# Altium integrated library RS_ICs.IntLib: 6 symbols
Pins are listed as number, name and electrical type; pins without a type are passive.

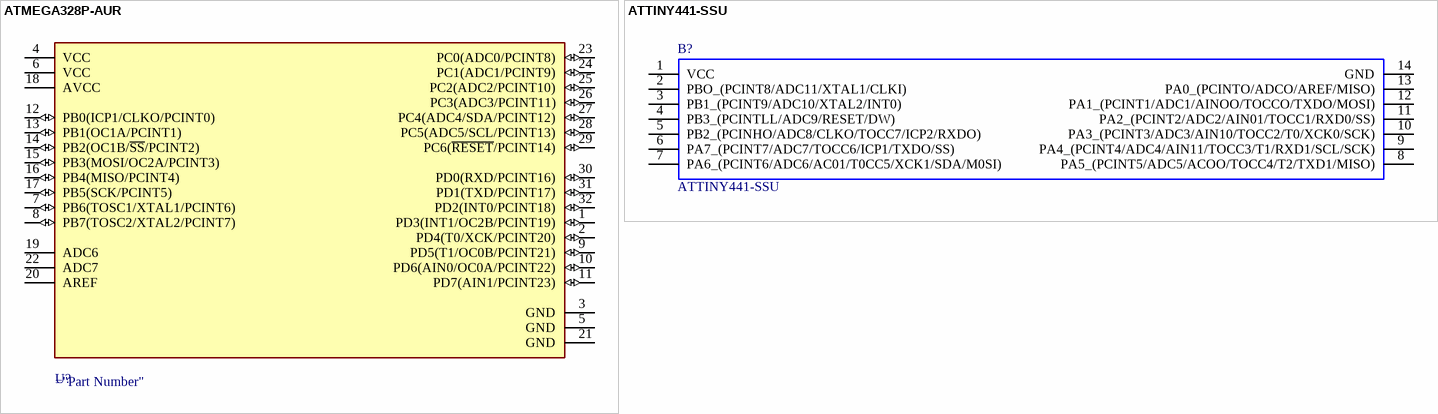
[diagram p0: symbols ATMEGA328P-AUR to ATTINY441-SSU]

## ATMEGA328P-AUR
designator U?  (value not drawn)
footprint Microchip_32A_0
pins: 1 PD3(INT1/OC2B/PCINT19) (io), 2 PD4(T0/XCK/PCINT20) (io), 3 GND (power), 4 VCC (power), 5 GND (power), 6 VCC (power), 7 PB6(TOSC1/XTAL1/PCINT6) (io), 8 PB7(TOSC2/XTAL2/PCINT7) (io), 9 PD5(T1/OC0B/PCINT21) (io), 10 PD6(AIN0/OC0A/PCINT22) (io), 11 PD7(AIN1/PCINT23) (io), 12 PB0(ICP1/CLKO/PCINT0) (io), 13 PB1(OC1A/PCINT1) (io), 14 PB2(OC1B/~{SS}/PCINT2) (io), 15 PB3(MOSI/OC2A/PCINT3) (io), 16 PB4(MISO/PCINT4) (io), 17 PB5(SCK/PCINT5) (io), 18 AVCC (power), 19 ADC6, 20 AREF, 21 GND (power), 22 ADC7, 23 PC0(ADC0/PCINT8) (io), 24 PC1(ADC1/PCINT9) (io), 25 PC2(ADC2/PCINT10) (io), 26 PC3(ADC3/PCINT11) (io), 27 PC4(ADC4/SDA/PCINT12) (io), 28 PC5(ADC5/SCL/PCINT13) (io), 29 PC6(~{RESET}/PCINT14) (io), 30 PD0(RXD/PCINT16) (io), 31 PD1(TXD/PCINT17) (io), 32 PD2(INT0/PCINT18) (io)

## ATTINY441-SSU
designator B?
8-bit Microcontrollers - MCU 16MHz 0.150" 14 SOIC; Manufacturer_Name: Microchip; Geometry.Height: 1.75mm; Manufacturer_Part_Number: ATTINY441-SSU; RS Part Number: 1331634; RS Price/Stock: http://uk.rs-online.com/web/p/products/1331634; Arrow Part Number: ATTINY441-SSU; Arrow Price/Stock: https://www.arrow.com/en/products/attiny441-ssu/microchip-technology; Datasheet Link: http://docs-emea.rs-online.com/webdocs/1441/0900766b81441b76.pdf
footprint SOIC127P600X175-14N
pins: 1 VCC (power), 2 PBO_(PCINT8/ADC11/XTAL1/CLKI), 3 PB1_(PCINT9/ADC10/XTAL2/INT0), 4 PB3_(PCINTLL/ADC9/RESET/DW), 5 PB2_(PCINHO/ADC8/CLKO/TOCC7/ICP2/RXDO), 6 PA7_(PCINT7/ADC7/TOCC6/ICP1/TXDO/SS), 7 PA6_(PCINT6/ADC6/AC01/T0CC5/XCK1/SDA/M0SI), 8 PA5_(PCINT5/ADC5/ACOO/TOCC4/T2/TXD1/MISO), 9 PA4_(PCINT4/ADC4/AIN11/TOCC3/T1/RXD1/SCL/SCK), 10 PA3_(PCINT3/ADC3/AIN10/TOCC2/T0/XCK0/SCK), 11 PA2_(PCINT2/ADC2/AIN01/TOCC1/RXD0/SS), 12 PA1_(PCINT1/ADC1/AINOO/TOCCO/TXDO/MOSI), 13 PA0_(PCINTO/ADCO/AREF/MISO), 14 GND


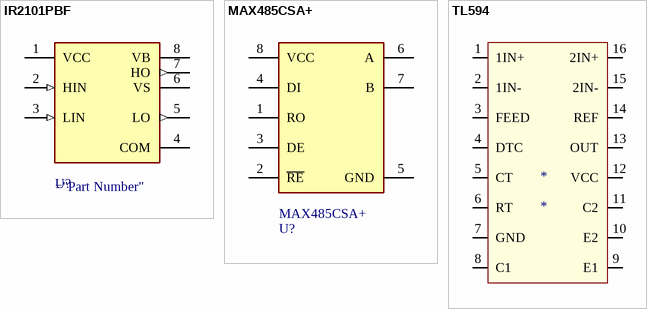
[diagram p1: symbols IR2101PBF to TL594]

## IR2101PBF
designator U?  (value not drawn)
footprint DIP8
pins: 1 VCC (power), 2 HIN (in), 3 LIN (in), 4 COM (power), 5 LO (out), 6 VS (power), 7 HO (out), 8 VB (power)

## MAX485CSA+
designator U?  Part Number: MAX485CSA+
IC TXRX RS485/RS422 LOWPWR 8SOIC; Manufacturer: Maxim Electronics; helpURL: https://upverter.com/upn/revision/9b9ac8077ab5223f/; ComponentLink2Description: Datasheet; Temperature: 0°C to +70°C; Package: SO8; Supplier 2: Mouser; Supplier 1: Digi-Key; ComponentLink1URL: https://upverter.com/upn/revision/9b9ac8077ab5223f/; Supplier Part Number 2: 700-MAX485CSA; Supplier Part Number 1: MAX485CSA+-ND; ComponentLink1Description: Upverter; ComponentLink2URL: https://datasheets.maximintegrated.com/en/ds/MAX1487-MAX491.pdf; RoHS: TRUE; Mouser Part Number: 700-MAX485CSA; Ipc Land Pattern Name: SOIC127P600X155-8; Temperature Range High: +70°C; Digikey Description: IC TXRX RS485/RS422 LOWPWR 8SOIC; Digikey Part Number: MAX485CSA+-ND; Lead Free: yes; Temperature Range Low: 0°C
footprint Maxim_Electronics_MAX485CSA+_0
pins: 1 RO, 2 ~{RE}, 3 DE, 4 DI, 5 GND, 6 A, 7 B, 8 VCC

## TL594
designator *
footprint DIP16 (DIP, 16-Leads, Body 19.7x6.6mm, Pitch 2.54mm)
pins: 1 1IN+, 2 1IN-, 3 FEED, 4 DTC, 5 CT, 6 RT, 7 GND, 8 C1, 9 E1, 10 E2, 11 C2, 12 VCC, 13 OUT, 14 REF, 15 2IN-, 16 2IN+


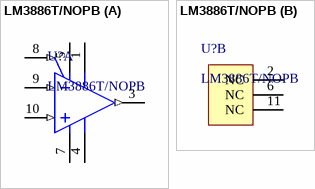
[diagram p2: symbol LM3886T/NOPB]

## LM3886T/NOPB
designator U?
High-Performance 68 W Audio Power Amplifier with Mute, 0 to 70 degC, 11-pin FM (NDJ11), Green (RoHS & no Sb/Br); Manufacturer: Texas Instruments; Input Type: Analog; SubFamily: Mid/High-Power Amplifier; ComponentLink1Description: Manufacturer URL; ComponentLink2Description: Datasheet; DatasheetVersion: SNAS091C; Mounting Technology: Through Hole; ComponentLink3URL: http://www.ti.com/lit/ds/symlink/lm3886.pdf; ComponentLink3Description: Package Specification; ComponentLink1URL: http://www.ti.com/; PackageReference: NDJ11; PackageVersion: Rev. B, 05/2013; Eco-Plan: Green (RoHS & no Sb/Br); PartNumber: LM3886T/NOPB; PackageDescription: 11-Pin Metal Flange Mount, Body 20.02 x 4.5, Pitch 1.7 mm; ComponentLink2URL: http://www.ti.com/general/docs/lit/getliterature.tsp?genericPartNumber=LM3886&fileType=pdf
footprint TO-220_11 (FM, 11-Leads, Body 20.02x4.5mm, Pitch 1.7mm)
part A pins: 1 V+ (power), 3 OUTPUT (out), 4 V- (power), 5 V+ (power), 7 GND (power), 8 MUTE (in), 9 VIN- (in), 10 VIN+ (in)
part B pins: 2 NC, 6 NC, 11 NC